# Altium footprint library FR107.PcbLib: 1 footprints
Each footprint in its own frame and in the unit in brackets; x right, y up, seen from the top. Pads: shape width x height; smd on the part's side, far side on the other; paste and mask are expansions set on the pad; w line width, h text height; cw(c..) or ccw(c..) is an arc to the next point about the centre after c.
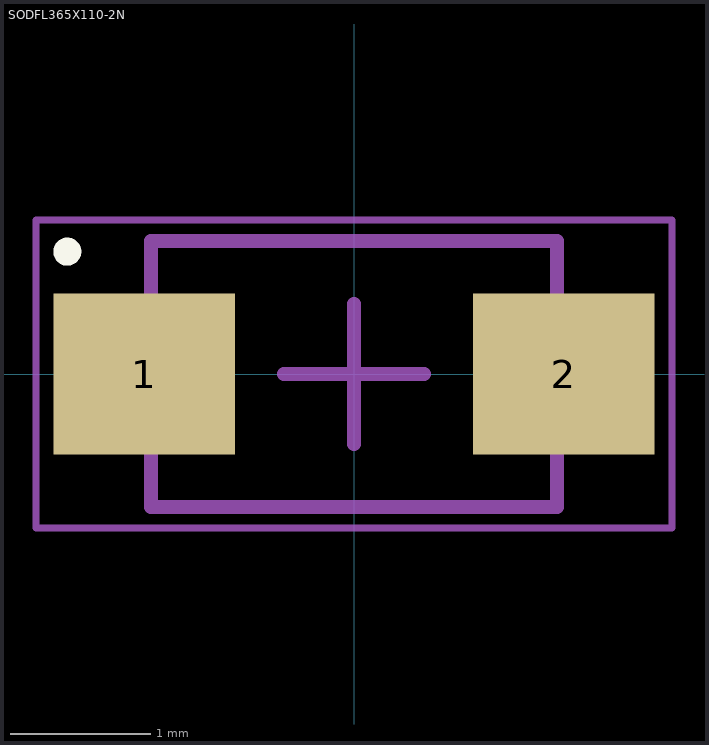
[diagram p0: the footprint, top view; thin cyan lines are the x and y axes]

## SODFL365X110-2N [mm] "SODFL, 2-Leads, Body 1.80x3.65mm, IPC Medium Density"
height 1.1
pads (2):
  rect 1.3x1.15 smd: 1(-1.5,0) 2(1.5,0)
Top Overlay:
  circle w0.1: c-2.05,0.875 r0.05
Mechanical 13:
  lines w0.1: -1.45,-0.95 1.45,-0.95 1.45,0.95 -1.45,0.95 -1.45,-0.95
Mechanical 15:
  lines w0.05: -2.275,-1.1 2.275,-1.1 2.275,1.1 -2.275,1.1 -2.275,-1.1
  lines w0.1: -0.5,0 0.5,0 ; 0,-0.5 0,0.5
3D body: height 1.1, standoff 0, extent -1.45,-0.95 1.45,0.95